# EAGLE library part MC05/10 (library con-phoenix-250)
COMBICON MC - 1881529
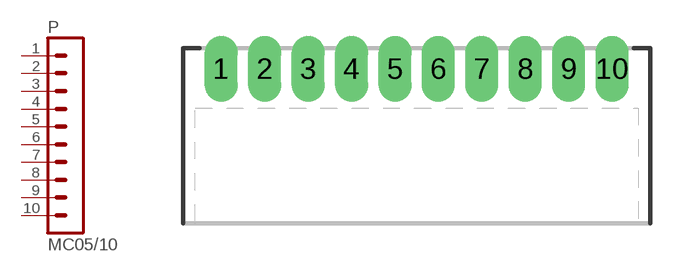
[diagram p3: symbol with the pads of MC05/10; footprint MC05/10]

Designator prefix P

## MC05/10  [MC05/10]
1  1  pas
2  2  pas
3  3  pas
4  4  pas
5  5  pas
6  6  pas
7  7  pas
8  8  pas
9  9  pas
10  10  pas

## Footprint MC05/10 (pad centres in mm)
HEADER
drill 1.27 long: 1 -11.25,0; 2 -8.75,0; 3 -6.25,0; 4 -3.75,0; 5 -1.25,0; 6 1.25,0; 7 3.75,0; 8 6.25,0; 9 8.75,0; 10 11.25,0